# EAGLE library part TPS3808G30DBVT (library vikc-ic)
WATCH DOG
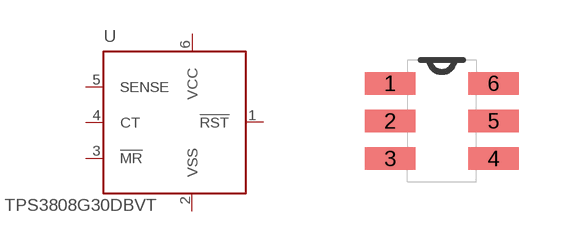
[diagram p9: symbol with the pads of SOT95P280X145-6N; footprint SOT95P280X145-6N]

Designator prefix U

## TPS3808G30DBVT  [SOT95P280X145-6N]
1  !RST
2  VSS  pwr
3  !MR  in
4  CT  in
5  SENSE  in
6  VCC  pwr

## Footprint SOT95P280X145-6N (pad centres in mm)
smd 1.27 x 0.559: 1 -1.295,0.94; 2 -1.295,0; 3 -1.295,-0.94; 4 1.295,-0.94; 5 1.295,0; 6 1.295,0.94